# Altium schematic symbol library Header_Harwin_M22-2510705_7POS.SchLib: 1 symbol
Pins are listed as number, name and electrical type; pins without a type are passive.

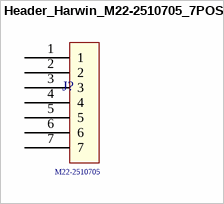
[diagram p0: symbol Header_Harwin_M22-2510705_7POS]

## Header_Harwin_M22-2510705_7POS
designator J?  Series: M22-2510705  (hidden comment: Header_Harwin_M22-2510705_7POS)
Headers & Wire Housings 6 WAY SIL VERT PC TAIL P/HDR; Supplier 1: Mouser; Supplier Part Number 1: 855-M22-2510705
footprint Header_Harwin_M22-2510705_7POS
pins: 1, 2, 3, 4, 5, 6, 7